# EAGLE library part PORT_POWER_PET (library commodore)
Power connector for various Commodore computers, PET/CBM type
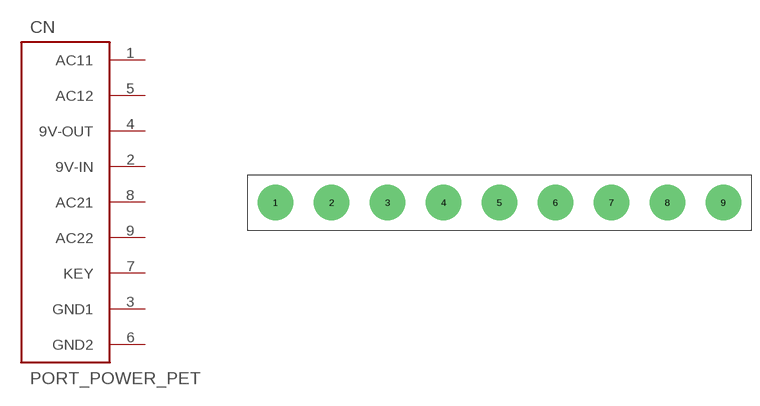
[diagram p39: symbol with the pads of P9; footprint P9]

Designator prefix CN

## PORT_POWER_PET  [P9]
1  AC11  pas
2  9V-IN  pas
3  GND1  pas
4  9V-OUT  pas
5  AC12  pas
6  GND2  pas
7  KEY  pas
8  AC21  pas
9  AC22  pas

## Footprint P9 (pad centres in mm)
drill 2.2 pad 6.452: 1 0,0; 2 10.16,0; 3 20.32,0; 4 30.48,0; 5 40.64,0; 6 50.8,0; 7 60.96,0; 8 71.12,0; 9 81.28,0